# EAGLE library part PIC24FXXXGPX06 (library SparkFun-Retired)
PIC24FXXXGPX06 PIC24FXXXGP106 / PIC24FXXXDA206 PIC24FJ256GP206-I/PT for IOIO Datasheet <https://cdn.sparkfun.com/datasheets/Dev/Android/39975a.pdf> SparkFun Products IOIO-OTG - V2.2 <https://www.sparkfun.com/products/13613> (DEV-13613)
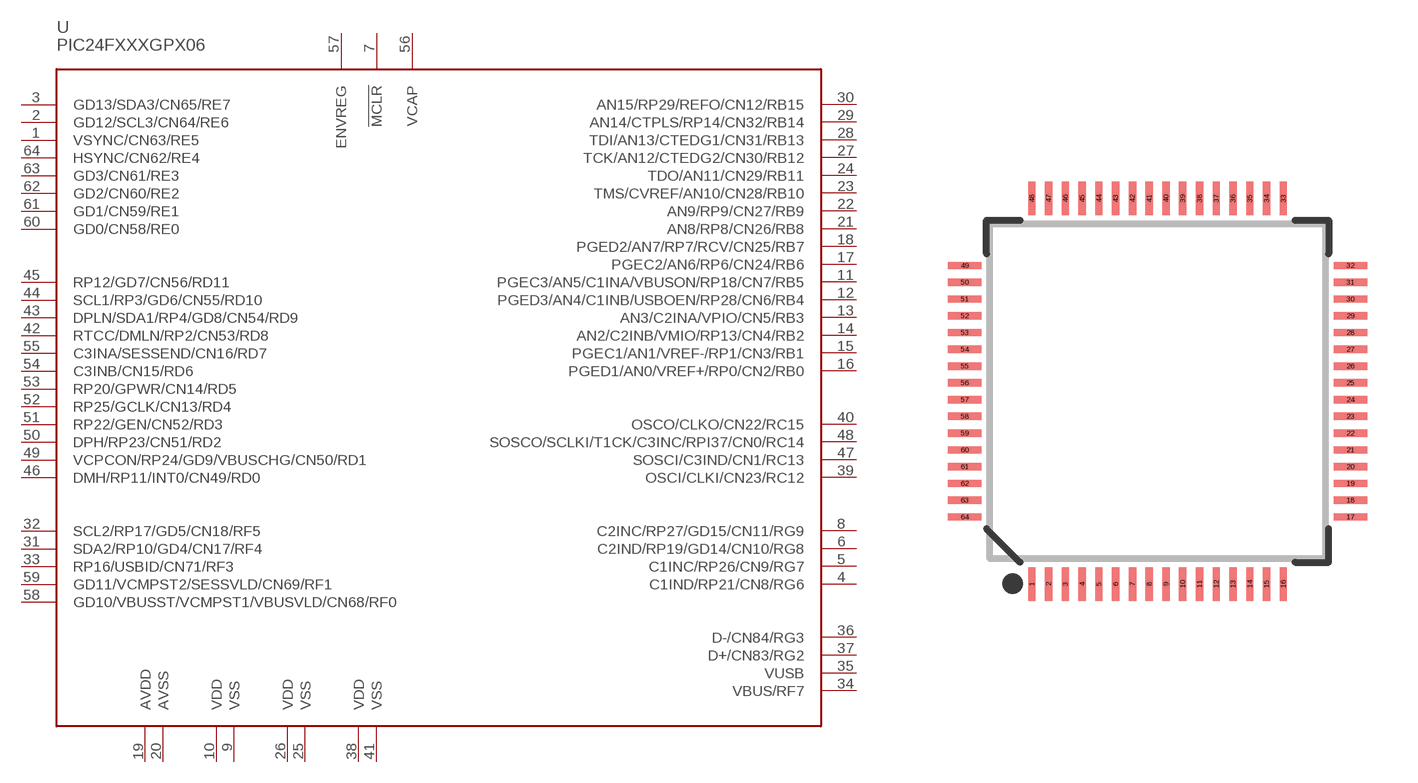
[diagram p108: symbol with the pads of PIC24FXXX_TQFP64_MCU; footprint PIC24FXXX_TQFP64_MCU]

Designator prefix U

## PIC24FXXXGPX06 (PROD_ID: IC-11312; VALUE: PIC24FJ256GB206)  [PIC24FXXX_TQFP64_MCU]
1  VSYNC/CN63/RE5
2  GD12/SCL3/CN64/RE6
3  GD13/SDA3/CN65/RE7
4  C1IND/RP21/CN8/RG6
5  C1INC/RP26/CN9/RG7
6  C2IND/RP19/GD14/CN10/RG8
7  !MCLR  in
8  C2INC/RP27/GD15/CN11/RG9
9  VSS  pwr
10  VDD  pwr
11  PGEC3/AN5/C1INA/VBUSON/RP18/CN7/RB5
12  PGED3/AN4/C1INB/USBOEN/RP28/CN6/RB4
13  AN3/C2INA/VPIO/CN5/RB3
14  AN2/C2INB/VMIO/RP13/CN4/RB2
15  PGEC1/AN1/VREF-/RP1/CN3/RB1
16  PGED1/AN0/VREF+/RP0/CN2/RB0
17  PGEC2/AN6/RP6/CN24/RB6
18  PGED2/AN7/RP7/RCV/CN25/RB7
19  AVDD  pwr
20  AVSS  pwr
21  AN8/RP8/CN26/RB8
22  AN9/RP9/CN27/RB9
23  TMS/CVREF/AN10/CN28/RB10
24  TDO/AN11/CN29/RB11
25  VSS  pwr
26  VDD  pwr
27  TCK/AN12/CTEDG2/CN30/RB12
28  TDI/AN13/CTEDG1/CN31/RB13
29  AN14/CTPLS/RP14/CN32/RB14
30  AN15/RP29/REFO/CN12/RB15
31  SDA2/RP10/GD4/CN17/RF4
32  SCL2/RP17/GD5/CN18/RF5
33  RP16/USBID/CN71/RF3
34  VBUS/RF7  in
35  VUSB  pwr
36  D-/CN84/RG3
37  D+/CN83/RG2
38  VDD  pwr
39  OSCI/CLKI/CN23/RC12
40  OSCO/CLKO/CN22/RC15
41  VSS  pwr
42  RTCC/DMLN/RP2/CN53/RD8
43  DPLN/SDA1/RP4/GD8/CN54/RD9
44  SCL1/RP3/GD6/CN55/RD10
45  RP12/GD7/CN56/RD11
46  DMH/RP11/INT0/CN49/RD0
47  SOSCI/C3IND/CN1/RC13
48  SOSCO/SCLKI/T1CK/C3INC/RPI37/CN0/RC14
49  VCPCON/RP24/GD9/VBUSCHG/CN50/RD1
50  DPH/RP23/CN51/RD2
51  RP22/GEN/CN52/RD3
52  RP25/GCLK/CN13/RD4
53  RP20/GPWR/CN14/RD5
54  C3INB/CN15/RD6
55  C3INA/SESSEND/CN16/RD7
56  VCAP  pwr
57  ENVREG  in
58  GD10/VBUSST/VCMPST1/VBUSVLD/CN68/RF0
59  GD11/VCMPST2/SESSVLD/CN69/RF1
60  GD0/CN58/RE0
61  GD1/CN59/RE1
62  GD2/CN60/RE2
63  GD3/CN61/RE3
64  HSYNC/CN62/RE4

## Footprint PIC24FXXX_TQFP64_MCU (pad centres in mm)
64-Lead TQFP Plastic Thin Quad Flatpack - 10x10x1mm Body, 2mmFP
smd 0.22 x 1: 1 -3.75,-5.75; 2 -3.25,-5.75; 3 -2.75,-5.75; 4 -2.25,-5.75; 5 -1.75,-5.75; 6 -1.25,-5.75; 7 -0.75,-5.75; 8 -0.25,-5.75; 9 0.25,-5.75; 10 0.75,-5.75; 11 1.25,-5.75; 12 1.75,-5.75; 13 2.25,-5.75; 14 2.75,-5.75; 15 3.25,-5.75; 16 3.75,-5.75; 33 3.75,5.75; 34 3.25,5.75; 35 2.75,5.75; 36 2.25,5.75; 37 1.75,5.75; 38 1.25,5.75; 39 0.75,5.75; 40 0.25,5.75; 41 -0.25,5.75; 42 -0.75,5.75; 43 -1.25,5.75; 44 -1.75,5.75; 45 -2.25,5.75; 46 -2.75,5.75; 47 -3.25,5.75; 48 -3.75,5.75
smd 1 x 0.22: 17 5.75,-3.75; 18 5.75,-3.25; 19 5.75,-2.75; 20 5.75,-2.25; 21 5.75,-1.75; 22 5.75,-1.25; 23 5.75,-0.75; 24 5.75,-0.25; 25 5.75,0.25; 26 5.75,0.75; 27 5.75,1.25; 28 5.75,1.75; 29 5.75,2.25; 30 5.75,2.75; 31 5.75,3.25; 32 5.75,3.75; 49 -5.75,3.75; 50 -5.75,3.25; 51 -5.75,2.75; 52 -5.75,2.25; 53 -5.75,1.75; 54 -5.75,1.25; 55 -5.75,0.75; 56 -5.75,0.25; 57 -5.75,-0.25; 58 -5.75,-0.75; 59 -5.75,-1.25; 60 -5.75,-1.75; 61 -5.75,-2.25; 62 -5.75,-2.75; 63 -5.75,-3.25; 64 -5.75,-3.75